# EAGLE library part T3168 (library my_ic)
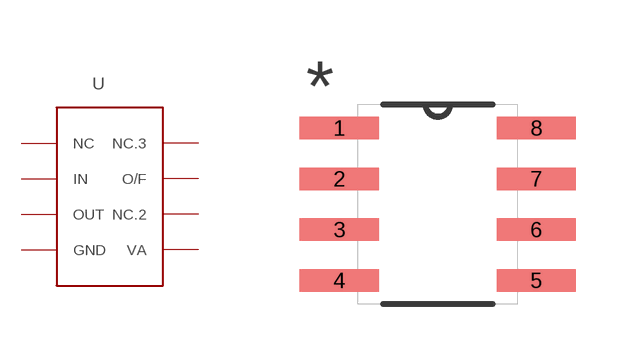
[diagram p22: symbol with the pads of SOIC-8; footprint SOIC-8]

Designator prefix -

## T3168  [SOIC-8]
1  NC
2  IN
3  OUT
4  GND
5  VA
6  NC.2
7  O/F
8  NC.3

## Footprint SOIC-8 (pad centres in mm)
smd 1.981 x 0.559: 1 -2.464,1.905; 2 -2.464,0.635; 3 -2.464,-0.635; 4 -2.464,-1.905; 5 2.464,-1.905; 6 2.464,-0.635; 7 2.464,0.635; 8 2.464,1.905